# Altium schematic symbol library 原理图库.SchLib: 3 symbols
Pins are listed as number, name and electrical type; pins without a type are passive.

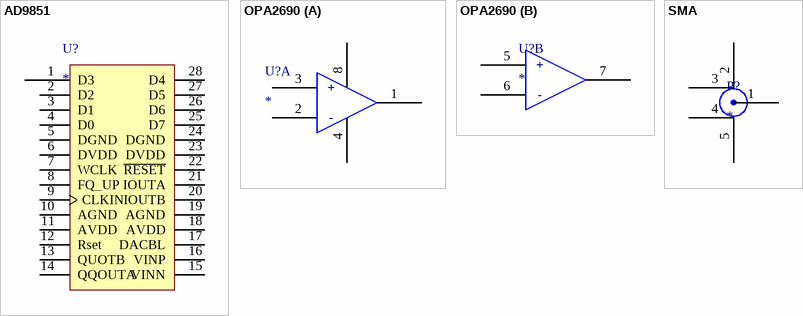
[diagram p0: symbols AD9851 to SMA]

## AD9851
designator U?
footprint TSSOP28
pins: 1 D3, 2 D2, 3 D1, 4 D0, 5 DGND, 6 DVDD, 7 WCLK, 8 FQ_UP, 9 CLKIN, 10 AGND, 11 AVDD, 12 Rset, 13 QUOTB, 14 QQOUTA, 15 VINN, 16 VINP, 17 DACBL, 18 AVDD, 19 AGND, 20 IOUTB, 21 IOUTA, 22 ~{RESET}, 23 DVDD, 24 DGND, 25 D7, 26 D6, 27 D5, 28 D4

## OPA2690
designator U?
part A pins: 1, 2, 3, 4, 8
part B pins: 5, 6, 7
part A text: +; -
part B text: +; -

## SMA
designator P?
footprint SMA-KE
pins: 1, 2, 3, 4, 5